# Altium schematic symbol library Tray2Mobo.SchLib: 4 symbols
Pins are listed as number, name and electrical type; pins without a type are passive.

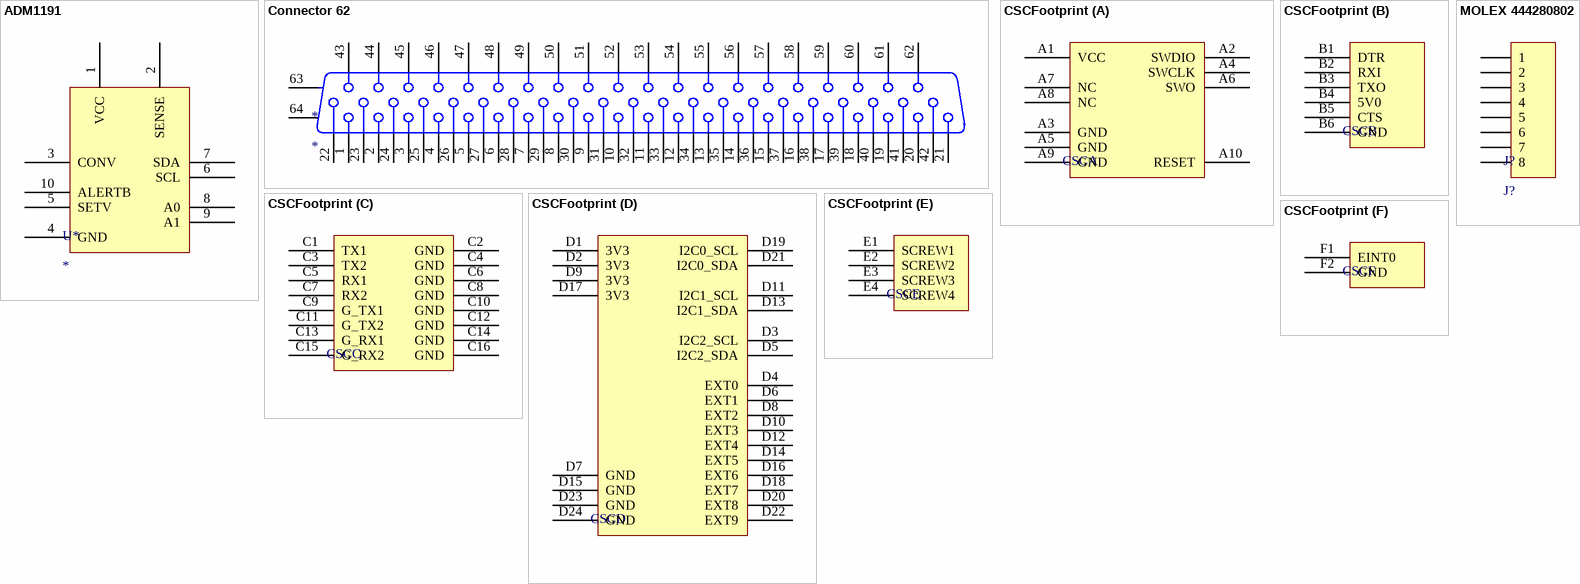
[diagram p0: symbols ADM1191 to MOLEX 444280802]

## ADM1191
designator U*
footprint ADM1191
pins: 1 VCC, 2 SENSE, 3 CONV, 4 GND, 5 SETV, 6 SCL, 7 SDA, 8 A0, 9 A1, 10 ALERTB

## Connector 62
designator *
footprint HD-22 62 POS
pins: 1, 2, 3, 4, 5, 6, 7, 8, 9, 10, 11, 12, 13, 14, 15, 16, 17, 18, 19, 20, 21, 22, 23, 24, 25, 26, 27, 28, 29, 30, 31, 32, 33, 34, 35, 36, 37, 38, 39, 40, 41, 42, 43, 44, 45, 46, 47, 48, 49, 50, 51, 52, 53, 54, 55, 56, 57, 58, 59, 60, 61, 62, 63 MH1, 64 MH2

## CSCFootprint
designator CSC
footprint CSCFootprint
part A pins: A1 VCC, A2 SWDIO, A3 GND, A4 SWCLK, A5 GND, A6 SWO, A7 NC, A8 NC, A9 GND, A10 RESET
part B pins: B1 DTR, B2 RXI, B3 TXO, B4 5V0, B5 CTS, B6 GND
part C pins: C1 TX1, C2 GND, C3 TX2, C4 GND, C5 RX1, C6 GND, C7 RX2, C8 GND, C9 G_TX1, C10 GND, C11 G_TX2, C12 GND, C13 G_RX1, C14 GND, C15 G_RX2, C16 GND
part D pins: D1 3V3, D2 3V3, D3 I2C2_SCL, D4 EXT0, D5 I2C2_SDA, D6 EXT1, D7 GND, D8 EXT2, D9 3V3, D10 EXT3, D11 I2C1_SCL, D12 EXT4, D13 I2C1_SDA, D14 EXT5, D15 GND, D16 EXT6, D17 3V3, D18 EXT7, D19 I2C0_SCL, D20 EXT8, D21 I2C0_SDA, D22 EXT9, D23 GND, D24 GND
part E pins: E1 SCREW1, E2 SCREW2, E3 SCREW3, E4 SCREW4
part F pins: F1 EINT0, F2 GND

## MOLEX 444280802
designator J?, comment J?
B2B RA Header
footprint MOLEX 444280802 (B2B RA Header)
pins: 1, 2, 3, 4, 5, 6, 7, 8